# EAGLE library part XC9572XL-10VQG64C (library XC9572XL-10VQG64C)
Check availability <https://pricing.snapeda.com/parts/XC9572XL-10VQG64C/Xilinx%20Inc./view-part?ref=eda>
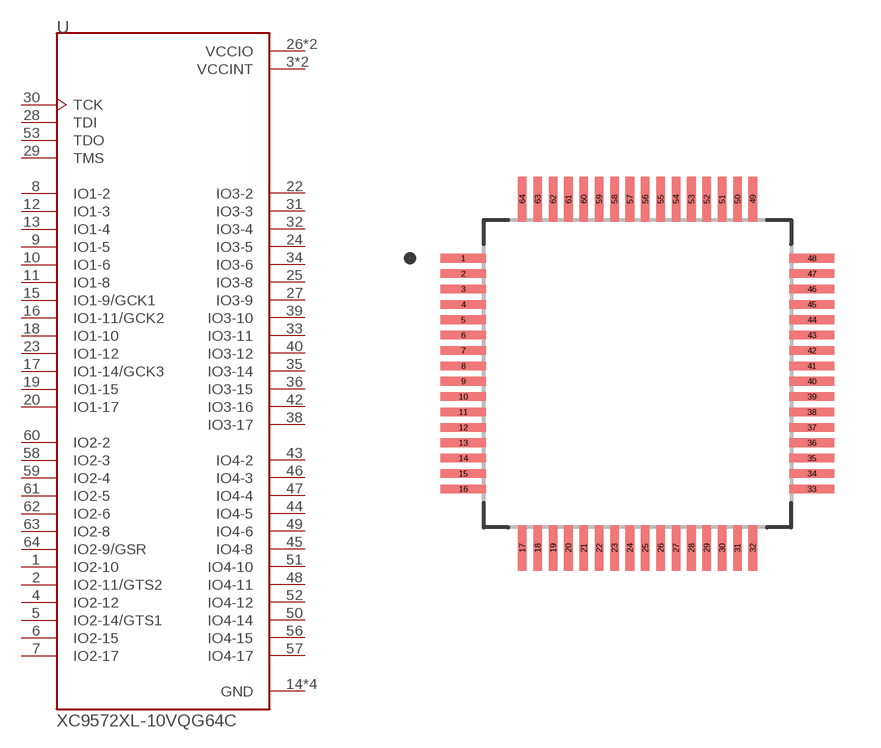
[diagram p0: symbol with the pads of QFP50P1200X1200X120-64N; footprint QFP50P1200X1200X120-64N]

Designator prefix U

## XC9572XL-10VQG64C (Availability: In Stock; Check_prices: https://www.snapeda.com/parts/XC9572XL-10VQG64C/Xilinx/view-part/?ref=eda; Description: IC CPLD 72MC 10NS 64VQFP; MF: Xilinx Inc.; MP: XC9572XL-10VQG64C; Package: VQFP-64 Xilinx; Price: None; SnapEDA_Link: https://www.snapeda.com/parts/XC9572XL-10VQG64C/Xilinx/view-part/?ref=snap)  [QFP50P1200X1200X120-64N]
1  IO2-10
2  IO2-11/GTS2
3  VCCINT  pwr
4  IO2-12
5  IO2-14/GTS1
6  IO2-15
7  IO2-17
8  IO1-2
9  IO1-5
10  IO1-6
11  IO1-8
12  IO1-3
13  IO1-4
14  GND  pwr
15  IO1-9/GCK1
16  IO1-11/GCK2
17  IO1-14/GCK3
18  IO1-10
19  IO1-15
20  IO1-17
21  GND  pwr
22  IO3-2
23  IO1-12
24  IO3-5
25  IO3-8
26  VCCIO  pwr
27  IO3-9
28  TDI  in
29  TMS  in
30  TCK  in
31  IO3-3
32  IO3-4
33  IO3-11
34  IO3-6
35  IO3-14
36  IO3-15
37  VCCINT  pwr
38  IO3-17
39  IO3-10
40  IO3-12
41  GND  pwr
42  IO3-16
43  IO4-2
44  IO4-5
45  IO4-8
46  IO4-3
47  IO4-4
48  IO4-11
49  IO4-6
50  IO4-14
51  IO4-10
52  IO4-12
53  TDO  out
54  GND  pwr
55  VCCIO  pwr
56  IO4-15
57  IO4-17
58  IO2-3
59  IO2-4
60  IO2-2
61  IO2-5
62  IO2-6
63  IO2-8
64  IO2-9/GSR

## Footprint QFP50P1200X1200X120-64N (pad centres in mm)
smd 1.47 x 0.28: 1 -5.67,3.75; 2 -5.67,3.25; 3 -5.67,2.75; 4 -5.67,2.25; 5 -5.67,1.75; 6 -5.67,1.25; 7 -5.67,0.75; 8 -5.67,0.25; 9 -5.67,-0.25; 10 -5.67,-0.75; 11 -5.67,-1.25; 12 -5.67,-1.75; 13 -5.67,-2.25; 14 -5.67,-2.75; 15 -5.67,-3.25; 16 -5.67,-3.75; 33 5.67,-3.75; 34 5.67,-3.25; 35 5.67,-2.75; 36 5.67,-2.25; 37 5.67,-1.75; 38 5.67,-1.25; 39 5.67,-0.75; 40 5.67,-0.25; 41 5.67,0.25; 42 5.67,0.75; 43 5.67,1.25; 44 5.67,1.75; 45 5.67,2.25; 46 5.67,2.75; 47 5.67,3.25; 48 5.67,3.75
smd 0.28 x 1.47: 17 -3.75,-5.67; 18 -3.25,-5.67; 19 -2.75,-5.67; 20 -2.25,-5.67; 21 -1.75,-5.67; 22 -1.25,-5.67; 23 -0.75,-5.67; 24 -0.25,-5.67; 25 0.25,-5.67; 26 0.75,-5.67; 27 1.25,-5.67; 28 1.75,-5.67; 29 2.25,-5.67; 30 2.75,-5.67; 31 3.25,-5.67; 32 3.75,-5.67; 49 3.75,5.67; 50 3.25,5.67; 51 2.75,5.67; 52 2.25,5.67; 53 1.75,5.67; 54 1.25,5.67; 55 0.75,5.67; 56 0.25,5.67; 57 -0.25,5.67; 58 -0.75,5.67; 59 -1.25,5.67; 60 -1.75,5.67; 61 -2.25,5.67; 62 -2.75,5.67; 63 -3.25,5.67; 64 -3.75,5.67